# EAGLE library part L6920 (library Digilent)
L6920 Synchronous Step Up Converter
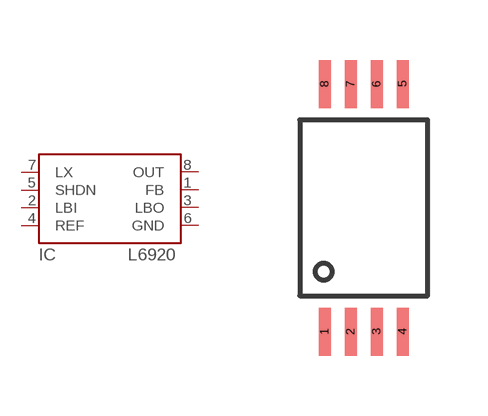
[diagram p59: symbol with the pads of TSSOP8; footprint TSSOP8]

Designator prefix IC

## L6920  [TSSOP8]
1  FB
2  LBI
3  LBO
4  REF
5  SHDN
6  GND  pwr
7  LX
8  OUT  pwr

## Footprint TSSOP8 (pad centres in mm)
smd 0.3 x 1.2: 1 -0.975,-3.1; 2 -0.325,-3.1; 3 0.325,-3.1; 4 0.975,-3.1; 5 0.975,3.1; 6 0.325,3.1; 7 -0.325,3.1; 8 -0.975,3.1